# Altium footprint library S02B-PASK-2LFSN.PcbLib: 1 footprints
Each footprint in its own frame and in the unit in brackets; x right, y up, seen from the top. Pads: shape width x height; smd on the part's side, far side on the other; paste and mask are expansions set on the pad; w line width, h text height; cw(c..) or ccw(c..) is an arc to the next point about the centre after c.
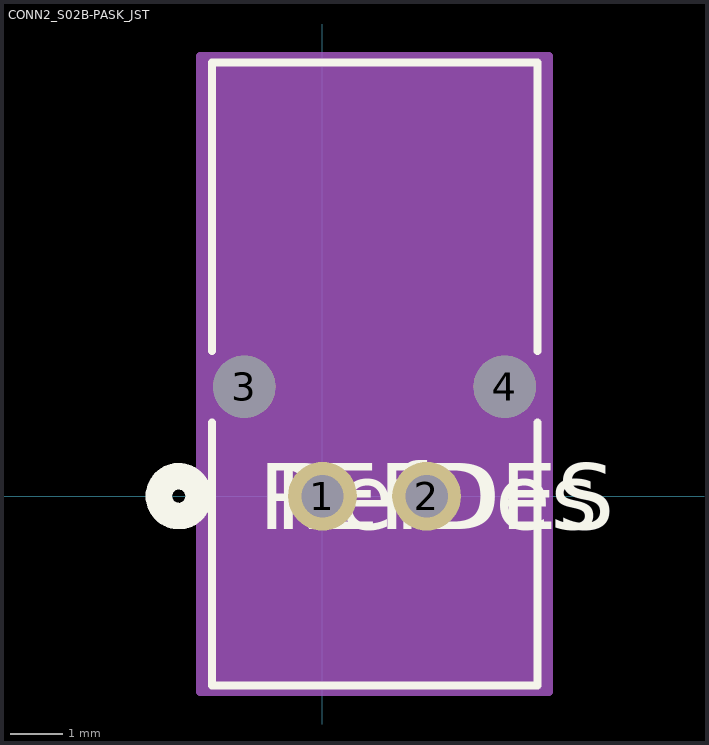
[diagram p0: the footprint, top view; thin cyan lines are the x and y axes]

## CONN2_S02B-PASK_JST [mil]
pads (4):
  round 52 / inner round 60 / far side round 52 hole 32 paste-26 mask+0: 1(0,0) 2(78.74,0)
  round 47 / inner round 60 / far side round 47 hole 47 unplated paste+0 mask+0: 3(-59.06,82.68) 4(137.8,82.68)
Top Overlay:
  circle w20: c-108.63,0 r15
  lines w6: -83.63,55.55 -83.63,-143.17 162.37,-143.17 162.37,55.55 ; -83.63,109.8 -83.63,327.83 162.37,327.83 162.37,109.8
  text "RefDes" at -35.63,-25 h50
  text "REFDES" at -48.13,-25 h50
Bottom Overlay:
  circle w20: c-108.63,0 r15
Mechanical 13:
  circle w20: c0,75 r15
  lines w1: -78.63,-138.17 157.37,-138.17 157.37,322.83 -78.63,322.83 -78.63,-138.17
  text "RefDes2" at -48.13,-25 h50
Mechanical 15:
  region: 171.3,332.83 -92.56,332.83 -92.56,-148.17 171.3,-148.17
  lines w6: -92.56,-148.17 -92.56,332.83 171.3,332.83 171.3,-148.17 -92.56,-148.17